# Altium footprint library QFN40P300X300X90_HS-21L.PcbLib: 1 footprints
Each footprint in its own frame and in the unit in brackets; x right, y up, seen from the top. Pads: shape width x height; smd on the part's side, far side on the other; paste and mask are expansions set on the pad; w line width, h text height; cw(c..) or ccw(c..) is an arc to the next point about the centre after c.
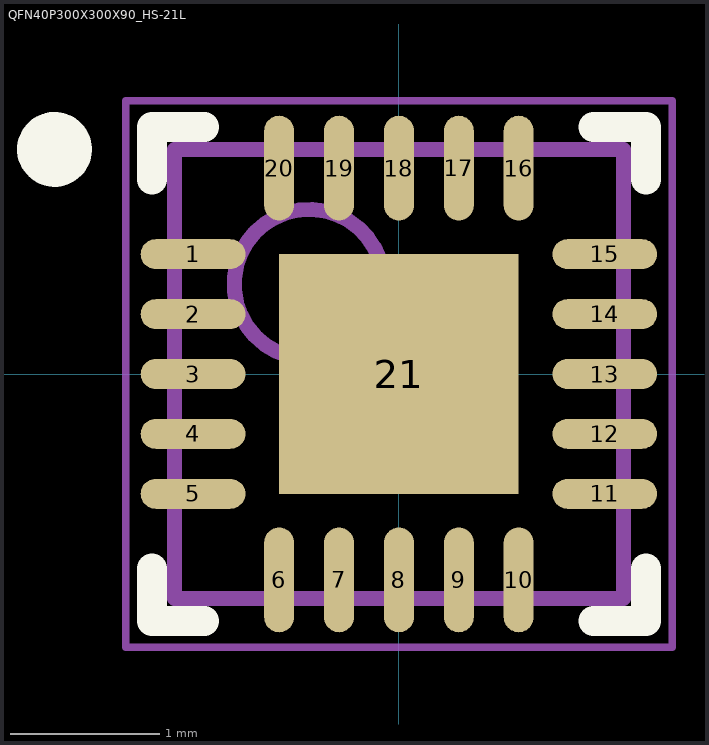
[diagram p0: the footprint, top view; thin cyan lines are the x and y axes]

## QFN40P300X300X90_HS-21L [mm] "QFN, 20-Leads, Body 3,00x3,00mm, Pitch 0,40mm, Thermal Pad 1,60x1,60mm, IPC High Density"
height 0.9
pads (21):
  oval 0.7x0.2 smd mask+0.05: 1(-1.375,0.8) 2(-1.375,0.4) 3(-1.375,0) 4(-1.375,-0.4) 5(-1.375,-0.8) 11(1.375,-0.8) 12(1.375,-0.4) 13(1.375,0) 14(1.375,0.4) 15(1.375,0.8)
  oval 0.2x0.7 smd mask+0.05: 6(-0.8,-1.375) 7(-0.4,-1.375) 8(0,-1.375) 9(0.4,-1.375) 10(0.8,-1.375) 16(0.8,1.375) 17(0.4,1.375) 18(0,1.375) 19(-0.4,1.375) 20(-0.8,1.375)
  rect 1.6x1.6 smd mask+0.05: 21(0,0)
Top Overlay:
  circle w0.25: c-2.3,1.5 r0.125
  lines w0.2: -1.65,-1.3 -1.65,-1.65 -1.3,-1.65 ; -1.65,1.3 -1.65,1.65 -1.3,1.65 ; 1.3,-1.65 1.65,-1.65 1.65,-1.3 ; 1.3,1.65 1.65,1.65 1.65,1.3
Top Courtyard:
  lines w0.05: -1.825,-1.825 1.825,-1.825 1.825,1.825 -1.825,1.825 -1.825,-1.825
  lines w0.1: -0.5,0 0.5,0 ; 0,-0.5 0,0.5
Top Assembly:
  circle w0.1: c-0.6,0.6 r0.5
  lines w0.1: -1.5,-1.5 1.5,-1.5 1.5,1.5 -1.5,1.5 -1.5,-1.5
3D body "QFN40P300X300X90_HS-21L.step": height 0.9, standoff 0, extent -1.55,-1.55 1.55,1.55